# Altium schematic symbol library MFRC63002HN,118.SchLib: 1 symbol
Pins are listed as number, name and electrical type; pins without a type are passive.

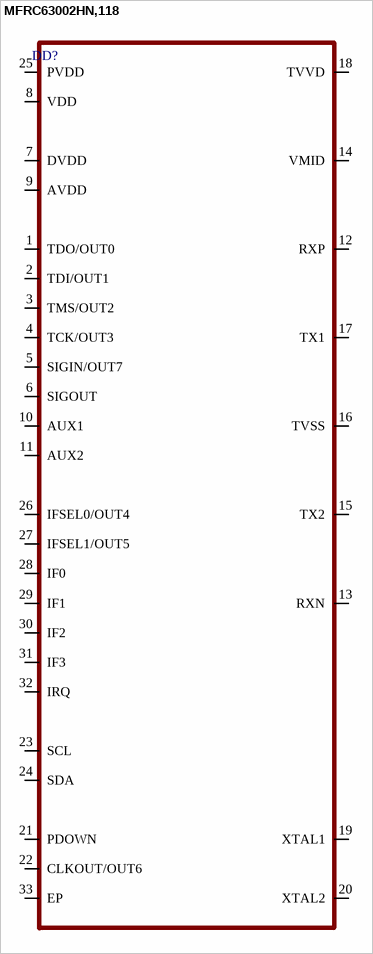
[diagram p0: symbol MFRC63002HN,118]

## MFRC63002HN,118
designator DD?
pins: 1 TDO/OUT0, 2 TDI/OUT1, 3 TMS/OUT2, 4 TCK/OUT3, 5 SIGIN/OUT7, 6 SIGOUT, 7 DVDD, 8 VDD, 9 AVDD, 10 AUX1, 11 AUX2, 12 RXP, 13 RXN, 14 VMID, 15 TX2, 16 TVSS, 17 TX1, 18 TVVD, 19 XTAL1, 20 XTAL2, 21 PDOWN, 22 CLKOUT/OUT6, 23 SCL, 24 SDA, 25 PVDD, 26 IFSEL0/OUT4, 27 IFSEL1/OUT5, 28 IF0, 29 IF1, 30 IF2, 31 IF3, 32 IRQ, 33 EP